# Altium footprint library HIROSE_DF40C-100DP-0.4V(51).PcbLib: 1 footprints
Each footprint in its own frame and in the unit in brackets; x right, y up, seen from the top. Pads: shape width x height; smd on the part's side, far side on the other; paste and mask are expansions set on the pad; w line width, h text height; cw(c..) or ccw(c..) is an arc to the next point about the centre after c.
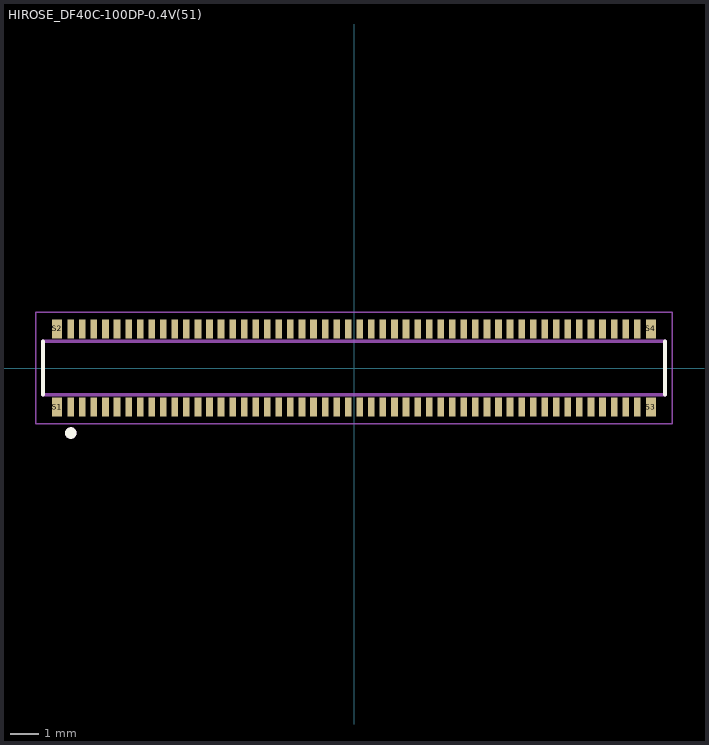
[diagram p0: the footprint, top view; thin cyan lines are the x and y axes]

## HIROSE_DF40C-100DP-0.4V(51) [mm]
height 1.29
pads (104):
  rect 0.23x0.66 smd paste-1 mask+0.102: 1(-9.8,-1.355) 2(-9.8,1.355) 3(-9.4,-1.355) 4(-9.4,1.355) 5(-9,-1.355) 6(-9,1.355) 7(-8.6,-1.355) 8(-8.6,1.355) 9(-8.2,-1.355) 10(-8.2,1.355) 11(-7.8,-1.355) 12(-7.8,1.355) 13(-7.4,-1.355) 14(-7.4,1.355) 15(-7,-1.355) 16(-7,1.355) 17(-6.6,-1.355) 18(-6.6,1.355) 19(-6.2,-1.355) 20(-6.2,1.355) 21(-5.8,-1.355) 22(-5.8,1.355) 23(-5.4,-1.355) 24(-5.4,1.355) 25(-5,-1.355) 26(-5,1.355) 27(-4.6,-1.355) 28(-4.6,1.355) 29(-4.2,-1.355) 30(-4.2,1.355) 31(-3.8,-1.355) 32(-3.8,1.355) 33(-3.4,-1.355) 34(-3.4,1.355) 35(-3,-1.355) 36(-3,1.355) 37(-2.6,-1.355) 38(-2.6,1.355) 39(-2.2,-1.355) 40(-2.2,1.355) 41(-1.8,-1.355) 42(-1.8,1.355) 43(-1.4,-1.355) 44(-1.4,1.355) 45(-1,-1.355) 46(-1,1.355) 47(-0.6,-1.355) 48(-0.6,1.355) 49(-0.2,-1.355) 50(-0.2,1.355) 51(0.2,-1.355) 52(0.2,1.355) 53(0.6,-1.355) 54(0.6,1.355) 55(1,-1.355) 56(1,1.355) 57(1.4,-1.355) 58(1.4,1.355) 59(1.8,-1.355) 60(1.8,1.355) 61(2.2,-1.355) 62(2.2,1.355) 63(2.6,-1.355) 64(2.6,1.355) 65(3,-1.355) 66(3,1.355) 67(3.4,-1.355) 68(3.4,1.355) 69(3.8,-1.355) 70(3.8,1.355) 71(4.2,-1.355) 72(4.2,1.355) 73(4.6,-1.355) 74(4.6,1.355) 75(5,-1.355) 76(5,1.355) 77(5.4,-1.355) 78(5.4,1.355) 79(5.8,-1.355) 80(5.8,1.355) 81(6.2,-1.355) 82(6.2,1.355) 83(6.6,-1.355) 84(6.6,1.355) 85(7,-1.355) 86(7,1.355) 87(7.4,-1.355) 88(7.4,1.355) 89(7.8,-1.355) 90(7.8,1.355) 91(8.2,-1.355) 92(8.2,1.355) 93(8.6,-1.355) 94(8.6,1.355) 95(9,-1.355) 96(9,1.355) 97(9.4,-1.355) 98(9.4,1.355) 99(9.8,-1.355) 100(9.8,1.355)
  rect 0.35x0.66 smd paste-1 mask+0.102: S1(-10.275,-1.355) S2(-10.275,1.355) S3(10.275,-1.355) S4(10.275,1.355)
Top Overlay:
  circle w0.2: c-9.8,-2.25 r0.1
  lines w0.127: -10.76,-0.925 -10.76,0.925 ; 10.76,-0.925 10.76,0.925
Top Paste:
  drawing of 104 lines, arcs and shapes, not listed
Assembly Top:
  circle w0.2: c-9.8,-2.25 r0.1
  lines w0.127: -10.76,-0.925 -10.76,0.925 10.76,0.925 10.76,-0.925 -10.76,-0.925
  text "Note: Stencil is based on 0.12 mm metal mask thickness" at -10.8,-5.2 h0.41
Courtyard Top:
  lines w0.05: -11.01,-1.935 -11.01,1.935 11.01,1.935 11.01,-1.935 -11.01,-1.935
3D body "step_temp.STEP": height 0.49, standoff -0.65, extent -10.76,-1.524 10.76,1.446